# EAGLE library part AR0135CS2C00SUEA0 (library AR0135CS2C00SUEA0)
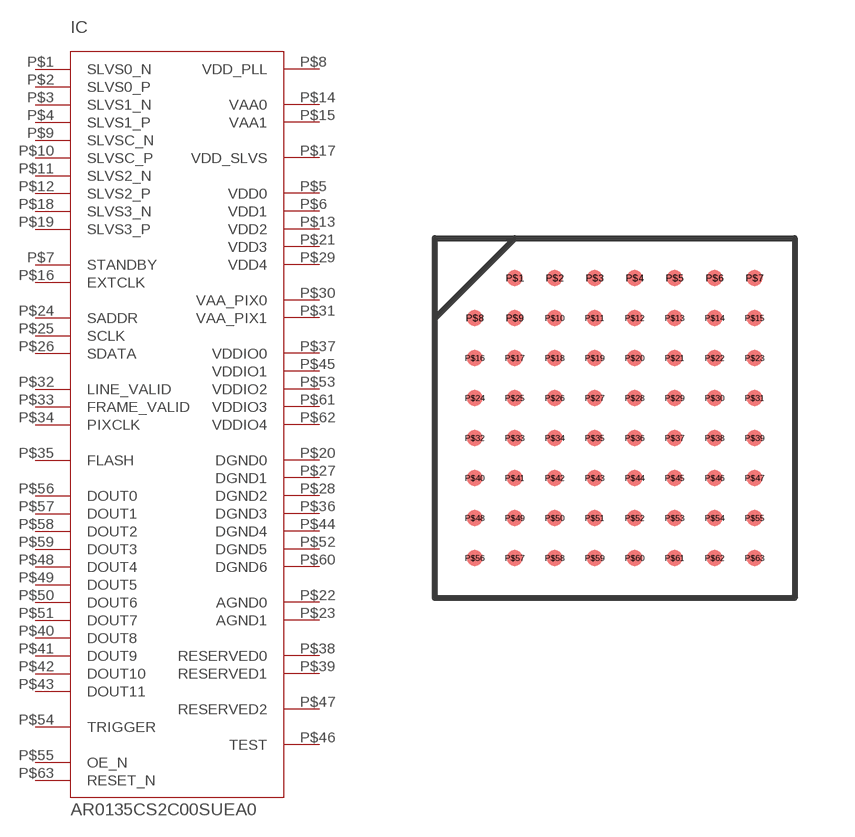
[diagram p0: symbol with the pads of AR0135CS2C00SUEA0; footprint AR0135CS2C00SUEA0]

Designator prefix IC

## AR0135CS2C00SUEA0  [AR0135CS2C00SUEA0]
P$1  SLVS0_N
P$2  SLVS0_P
P$3  SLVS1_N
P$4  SLVS1_P
P$5  VDD0
P$6  VDD1
P$7  STANDBY
P$8  VDD_PLL
P$9  SLVSC_N
P$10  SLVSC_P
P$11  SLVS2_N
P$12  SLVS2_P
P$13  VDD2
P$14  VAA0
P$15  VAA1
P$16  EXTCLK
P$17  VDD_SLVS
P$18  SLVS3_N
P$19  SLVS3_P
P$20  DGND0
P$21  VDD3
P$22  AGND0
P$23  AGND1
P$24  SADDR
P$25  SCLK
P$26  SDATA
P$27  DGND1
P$28  DGND2
P$29  VDD4
P$30  VAA_PIX0
P$31  VAA_PIX1
P$32  LINE_VALID
P$33  FRAME_VALID
P$34  PIXCLK
P$35  FLASH
P$36  DGND3
P$37  VDDIO0
P$38  RESERVED0
P$39  RESERVED1
P$40  DOUT8
P$41  DOUT9
P$42  DOUT10
P$43  DOUT11
P$44  DGND4
P$45  VDDIO1
P$46  TEST
P$47  RESERVED2
P$48  DOUT4
P$49  DOUT5
P$50  DOUT6
P$51  DOUT7
P$52  DGND5
P$53  VDDIO2
P$54  TRIGGER
P$55  OE_N
P$56  DOUT0
P$57  DOUT1
P$58  DOUT2
P$59  DOUT3
P$60  DGND6
P$61  VDDIO3
P$62  VDDIO4
P$63  RESET_N

## Footprint AR0135CS2C00SUEA0 (pad centres in mm)
smd 0.4 x 0.4: P$1 -2.5,3.5; P$2 -1.5,3.5; P$3 -0.5,3.5; P$4 0.5,3.5; P$5 1.5,3.5; P$6 2.5,3.5; P$7 3.5,3.5; P$8 -3.5,2.5; P$9 -2.5,2.5; P$10 -1.5,2.5; P$11 -0.5,2.5; P$12 0.5,2.5; P$13 1.5,2.5; P$14 2.5,2.5; P$15 3.5,2.5; P$16 -3.5,1.5; P$17 -2.5,1.5; P$18 -1.5,1.5; P$19 -0.5,1.5; P$20 0.5,1.5; P$21 1.5,1.5; P$22 2.5,1.5; P$23 3.5,1.5; P$24 -3.5,0.5; P$25 -2.5,0.5; P$26 -1.5,0.5; P$27 -0.5,0.5; P$28 0.5,0.5; P$29 1.5,0.5; P$30 2.5,0.5; P$31 3.5,0.5; P$32 -3.5,-0.5; P$33 -2.5,-0.5; P$34 -1.5,-0.5; P$35 -0.5,-0.5; P$36 0.5,-0.5; P$37 1.5,-0.5; P$38 2.5,-0.5; P$39 3.5,-0.5; P$40 -3.5,-1.5; P$41 -2.5,-1.5; P$42 -1.5,-1.5; P$43 -0.5,-1.5; P$44 0.5,-1.5; P$45 1.5,-1.5; P$46 2.5,-1.5; P$47 3.5,-1.5; P$48 -3.5,-2.5; P$49 -2.5,-2.5; P$50 -1.5,-2.5; P$51 -0.5,-2.5; P$52 0.5,-2.5; P$53 1.5,-2.5; P$54 2.5,-2.5; P$55 3.5,-2.5; P$56 -3.5,-3.5; P$57 -2.5,-3.5; P$58 -1.5,-3.5; P$59 -0.5,-3.5; P$60 0.5,-3.5; P$61 1.5,-3.5; P$62 2.5,-3.5; P$63 3.5,-3.5